# EAGLE library part PINHD-2X6 (library pinhead-new)
PIN HEADER
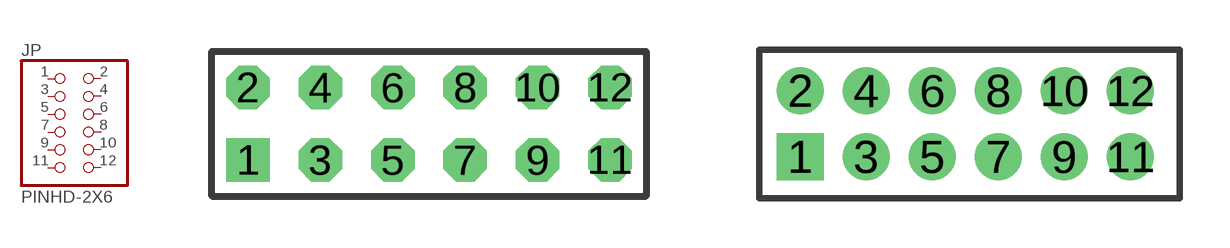
[diagram p30: symbol with the pads of 2X06; footprints 2X06, 2X06M]

Designator prefix JP

## PINHD-2X6  [2X06]
1  1  pas
2  2  pas
3  3  pas
4  4  pas
5  5  pas
6  6  pas
7  7  pas
8  8  pas
9  9  pas
10  10  pas
11  11  pas
12  12  pas

## PINHD-2X6M  [2X06M]
Pads as for 2X06

## Footprint 2X06 (pad centres in mm)
PIN HEADER - 0.1"
drill 1.016 square: 1 -6.35,-1.27
drill 1.016 octagon: 2 -6.35,1.27; 3 -3.81,-1.27; 4 -3.81,1.27; 5 -1.27,-1.27; 6 -1.27,1.27; 7 1.27,-1.27; 8 1.27,1.27; 9 3.81,-1.27; 10 3.81,1.27; 11 6.35,-1.27; 12 6.35,1.27

## Footprint 2X06M (pad centres in mm)
PIN HEADER - 2MM"
drill 0.914 square: 1 -5,-1
drill 0.914 round: 2 -5,1; 3 -3,-1; 4 -3,1; 5 -1,-1; 6 -1,1; 7 1,-1; 8 1,1; 9 3,-1; 10 3,1; 11 5,-1; 12 5,1